# Altium schematic symbol library 108CKR050M.SchLib: 1 symbol
Pins are listed as number, name and electrical type; pins without a type are passive.

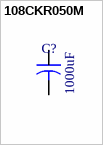
[diagram p0: symbol 108CKR050M]

## 108CKR050M
designator C?  value 1000uF  (hidden comment: *)
PartNumber: 108CKR050M; Manufacturer: Cornell Dubilier / Illinois Capacitor; PartDescription: CAP ALUM 1000UF 20% 50V RADIAL; Supplier 1: Digi-Key; Supplier Part Number 1: 1572-1058-ND; Package Type: 2 TH
footprint 107CKE100MLQ
pins: 1, 2